# Altium footprint library capacitors.PcbLib: 25 footprints (part 1 of 2)
Each footprint in its own frame and in the unit in brackets; x right, y up, seen from the top. Pads: shape width x height; smd on the part's side, far side on the other; paste and mask are expansions set on the pad; w line width, h text height; cw(c..) or ccw(c..) is an arc to the next point about the centre after c.
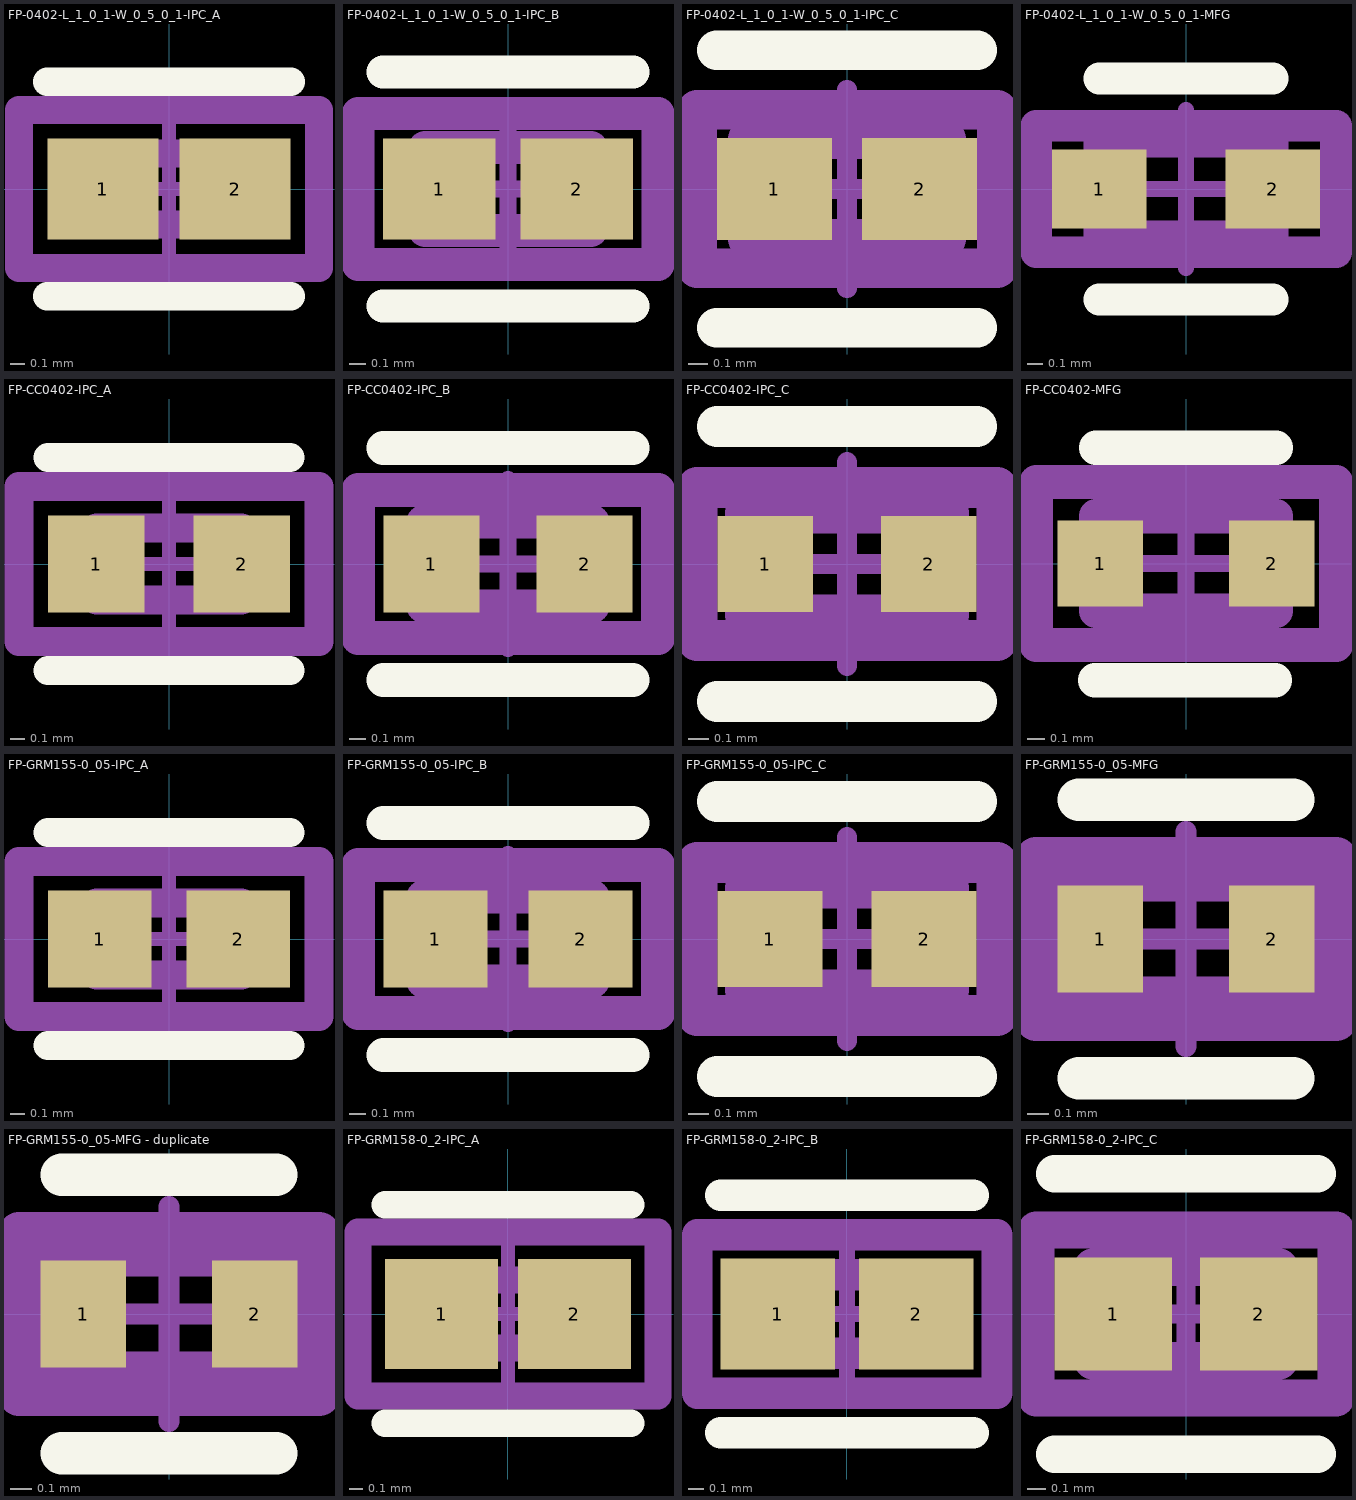
[diagram p0: the footprints below, top view; thin cyan lines are the x and y axes]

## FP-0402-L_1_0_1-W_0_5_0_1-IPC_A [mm]
pads (2):
  rect 0.781x0.712 smd paste+0 mask+0: 1(-0.466,0) 2(0.466,0)
Top Overlay:
  lines w0.2: -0.856,-0.756 0.856,-0.756 ; -0.856,0.756 0.856,0.756
Top 3D Body:
  lines w0.2: -0.5,-0.25 0.5,-0.25 0.5,0.25 -0.5,0.25 -0.5,-0.25
Top Courtyard:
  lines w0.2: -1.056,-0.556 1.056,-0.556 1.056,0.556 -1.056,0.556 -1.056,-0.556
Top Assembly:
  lines w0.2: -1.056,-0.556 1.056,-0.556 1.056,0.556 -1.056,0.556 -1.056,-0.556
Top Component Center:
  lines w0.1: -0.5,0 0.5,0 ; 0,-0.5 0,0.5
3D body "Cap_AVX_04025C472KAT2A_eec.STEP": height 0.25, standoff 0, extent -1.056,-0.556 1.056,0.556

## FP-0402-L_1_0_1-W_0_5_0_1-IPC_B [mm]
pads (2):
  rect 0.681x0.612 smd paste+0 mask+0: 1(-0.416,0) 2(0.416,0)
Top Overlay:
  lines w0.2: -0.756,-0.706 0.756,-0.706 ; -0.756,0.706 0.756,0.706
Top 3D Body:
  lines w0.2: -0.5,-0.25 -0.5,0.25 0.5,0.25 0.5,-0.25 -0.5,-0.25
Top Courtyard:
  lines w0.2: -0.906,-0.456 -0.906,0.456 0.906,0.456 0.906,-0.456 -0.906,-0.456
Top Assembly:
  lines w0.2: -0.906,-0.456 -0.906,0.456 0.906,0.456 0.906,-0.456 -0.906,-0.456
Top Component Center:
  lines w0.1: -0.5,0 0.5,0 ; 0,-0.5 0,0.5
3D body "Cap_AVX_04025C472KAT2A_eec.STEP": height 0.25, standoff 0, extent -0.906,-0.456 0.906,0.456

## FP-0402-L_1_0_1-W_0_5_0_1-IPC_C [mm]
pads (2):
  rect 0.581x0.512 smd paste+0 mask+0: 1(-0.366,0) 2(0.366,0)
Top Overlay:
  lines w0.2: -0.656,-0.7 0.656,-0.7 ; -0.656,0.7 0.656,0.7
Top 3D Body:
  lines w0.2: -0.5,-0.25 0.5,-0.25 0.5,0.25 -0.5,0.25 -0.5,-0.25
Top Courtyard:
  lines w0.2: -0.756,-0.4 0.756,-0.4 0.756,0.4 -0.756,0.4 -0.756,-0.4
Top Assembly:
  lines w0.2: -0.756,-0.4 0.756,-0.4 0.756,0.4 -0.756,0.4 -0.756,-0.4
Top Component Center:
  lines w0.1: -0.5,0 0.5,0 ; 0,-0.5 0,0.5
3D body "Cap_AVX_04025C472KAT2A_eec.STEP": height 0.25, standoff 0, extent -0.756,-0.4 0.756,0.4

## FP-0402-L_1_0_1-W_0_5_0_1-MFG [mm]
pads (2):
  rect 0.6x0.5 smd paste+0 mask+0: 1(-0.55,0) 2(0.55,0)
Top Overlay:
  lines w0.2: -0.55,-0.7 0.55,-0.7 ; -0.55,0.7 0.55,0.7
Top 3D Body:
  lines w0.2: -0.55,-0.3 -0.55,0.3 0.55,0.3 0.55,-0.3 -0.55,-0.3
Top Courtyard:
  lines w0.2: -0.95,-0.4 -0.95,0.4 0.95,0.4 0.95,-0.4 -0.95,-0.4
Top Assembly:
  lines w0.2: -0.95,-0.4 -0.95,0.4 0.95,0.4 0.95,-0.4 -0.95,-0.4
Top Component Center:
  lines w0.1: -0.5,0 0.5,0 ; 0,-0.5 0,0.5
3D body "Cap_AVX_04025C472KAT2A_eec.STEP": height 0.25, standoff 0, extent -0.95,-0.4 0.95,0.4

## FP-CC0402-IPC_A [mm]
pads (2):
  rect 0.668x0.672 smd paste+0 mask+0: 1(-0.502,0) 2(0.502,0)
Top Overlay:
  lines w0.2: -0.836,-0.736 0.836,-0.736 ; -0.836,0.736 0.836,0.736
Top 3D Body:
  lines w0.2: -0.5,-0.25 0.5,-0.25 0.5,0.25 -0.5,0.25 -0.5,-0.25
Top Courtyard:
  lines w0.2: -1.036,-0.536 1.036,-0.536 1.036,0.536 -1.036,0.536 -1.036,-0.536
Top Assembly:
  lines w0.2: -1.036,-0.536 1.036,-0.536 1.036,0.536 -1.036,0.536 -1.036,-0.536
  text ".Designator" at 0,0.188 h1
Top Component Center:
  lines w0.1: -0.5,0 0.5,0 ; 0,-0.5 0,0.5
3D body "Cap_YAGEO_CC0402KRX7R9BB101_eec.STEP": height 0.25, standoff 0, extent -1.036,-0.536 1.036,0.536

## FP-CC0402-IPC_B [mm]
pads (2):
  rect 0.568x0.572 smd paste+0 mask+0: 1(-0.452,0) 2(0.452,0)
Top Overlay:
  lines w0.2: -0.736,-0.686 0.736,-0.686 ; -0.736,0.686 0.736,0.686
Top 3D Body:
  lines w0.2: -0.5,-0.25 -0.5,0.25 0.5,0.25 0.5,-0.25 -0.5,-0.25
Top Courtyard:
  lines w0.2: -0.886,-0.436 -0.886,0.436 0.886,0.436 0.886,-0.436 -0.886,-0.436
Top Assembly:
  lines w0.2: -0.886,-0.436 -0.886,0.436 0.886,0.436 0.886,-0.436 -0.886,-0.436
  text ".Designator" at 0,0.188 h1
Top Component Center:
  lines w0.1: -0.5,0 0.5,0 ; 0,-0.5 0,0.5
3D body "Cap_YAGEO_CC0402KRX7R9BB101_eec.STEP": height 0.25, standoff 0, extent -0.886,-0.436 0.886,0.436

## FP-CC0402-IPC_C [mm]
pads (2):
  rect 0.468x0.472 smd paste+0 mask+0: 1(-0.402,0) 2(0.402,0)
Top Overlay:
  lines w0.2: -0.636,-0.675 0.636,-0.675 ; -0.636,0.675 0.636,0.675
Top 3D Body:
  lines w0.2: -0.5,-0.25 0.5,-0.25 0.5,0.25 -0.5,0.25 -0.5,-0.25
Top Courtyard:
  lines w0.2: -0.736,-0.375 0.736,-0.375 0.736,0.375 -0.736,0.375 -0.736,-0.375
Top Assembly:
  lines w0.2: -0.736,-0.375 0.736,-0.375 0.736,0.375 -0.736,0.375 -0.736,-0.375
  text ".Designator" at 0,0.188 h1
Top Component Center:
  lines w0.1: -0.5,0 0.5,0 ; 0,-0.5 0,0.5
3D body "Cap_YAGEO_CC0402KRX7R9BB101_eec.STEP": height 0.25, standoff 0, extent -0.736,-0.375 0.736,0.375

## FP-CC0402-MFG [mm]
pads (2):
  rect 0.5x0.5 smd paste+0 mask+0: 1(-0.5,0) 2(0.5,0)
Top Overlay:
  lines w0.2: -0.53,-0.681 0.52,-0.681 ; -0.525,0.675 0.525,0.675
Top 3D Body:
  lines w0.2: -0.525,-0.275 -0.525,0.275 0.525,0.275 0.525,-0.275 -0.525,-0.275
Top Courtyard:
  lines w0.2: -0.875,-0.475 -0.875,0.475 0.875,0.475 0.875,-0.475 -0.875,-0.475
Top Assembly:
  lines w0.2: -0.875,-0.475 -0.875,0.475 0.875,0.475 0.875,-0.475 -0.875,-0.475
Top Component Center:
  lines w0.1: -0.5,0 0.5,0 ; 0,-0.5 0,0.5
3D body "Cap_YAGEO_CC0402KRX7R9BB101_eec.STEP": height 0.25, standoff 0, extent -0.875,-0.475 0.875,0.475

## FP-GRM155-0_05-IPC_A [mm]
pads (2):
  rect 0.715x0.672 smd paste+0 mask+0: 1(-0.479,0) 2(0.479,0)
Top Overlay:
  lines w0.2: -0.836,-0.736 0.836,-0.736 ; -0.836,0.736 0.836,0.736
Top 3D Body:
  lines w0.2: -0.5,-0.25 -0.5,0.25 0.5,0.25 0.5,-0.25 -0.5,-0.25
Top Courtyard:
  lines w0.2: -1.036,-0.536 -1.036,0.536 1.036,0.536 1.036,-0.536 -1.036,-0.536
Top Assembly:
  lines w0.2: -1.036,-0.536 -1.036,0.536 1.036,0.536 1.036,-0.536 -1.036,-0.536
Top Component Center:
  lines w0.1: -0.5,0 0.5,0 ; 0,-0.5 0,0.5
3D body "Cap_Murata_GRM1552C1H271GA01J_eec.STEP": height 0.25, standoff 0, extent -1.036,-0.536 1.036,0.536

## FP-GRM155-0_05-IPC_B [mm]
pads (2):
  rect 0.615x0.572 smd paste+0 mask+0: 1(-0.429,0) 2(0.429,0)
Top Overlay:
  lines w0.2: -0.736,-0.686 0.736,-0.686 ; -0.736,0.686 0.736,0.686
Top 3D Body:
  lines w0.2: -0.5,-0.25 -0.5,0.25 0.5,0.25 0.5,-0.25 -0.5,-0.25
Top Courtyard:
  lines w0.2: -0.886,-0.436 -0.886,0.436 0.886,0.436 0.886,-0.436 -0.886,-0.436
Top Assembly:
  lines w0.2: -0.886,-0.436 -0.886,0.436 0.886,0.436 0.886,-0.436 -0.886,-0.436
Top Component Center:
  lines w0.1: -0.5,0 0.5,0 ; 0,-0.5 0,0.5
3D body "Cap_Murata_GRM1552C1H271GA01J_eec.STEP": height 0.25, standoff 0, extent -0.886,-0.436 0.886,0.436

## FP-GRM155-0_05-IPC_C [mm]
pads (2):
  rect 0.515x0.472 smd paste+0 mask+0: 1(-0.379,0) 2(0.379,0)
Top Overlay:
  lines w0.2: -0.636,-0.675 0.636,-0.675 ; -0.636,0.675 0.636,0.675
Top 3D Body:
  lines w0.2: -0.5,-0.25 -0.5,0.25 0.5,0.25 0.5,-0.25 -0.5,-0.25
Top Courtyard:
  lines w0.2: -0.736,-0.375 -0.736,0.375 0.736,0.375 0.736,-0.375 -0.736,-0.375
Top Assembly:
  lines w0.2: -0.736,-0.375 -0.736,0.375 0.736,0.375 0.736,-0.375 -0.736,-0.375
Top Component Center:
  lines w0.1: -0.5,0 0.5,0 ; 0,-0.5 0,0.5
3D body "Cap_Murata_GRM1552C1H271GA01J_eec.STEP": height 0.25, standoff 0, extent -0.736,-0.375 0.736,0.375

## FP-GRM155-0_05-MFG [mm]
pads (2):
  rect 0.4x0.5 smd paste+0 mask+0: 1(-0.4,0) 2(0.4,0)
Top Overlay:
  lines w0.2: -0.5,-0.65 0.5,-0.65 ; -0.5,0.65 0.5,0.65
Top 3D Body:
  lines w0.2: -0.525,-0.275 0.525,-0.275 0.525,0.275 -0.525,0.275 -0.525,-0.275
Top Courtyard:
  lines w0.2: -0.7,-0.375 0.7,-0.375 0.7,0.375 -0.7,0.375 -0.7,-0.375
Top Assembly:
  lines w0.2: -0.7,-0.375 0.7,-0.375 0.7,0.375 -0.7,0.375 -0.7,-0.375
Top Component Center:
  lines w0.1: -0.5,0 0.5,0 ; 0,-0.5 0,0.5
3D body "Cap_Murata_GRM1552C1H271GA01J_eec.STEP": height 0.25, standoff 0, extent -0.7,-0.375 0.7,0.375

## FP-GRM155-0_05-MFG - duplicate [mm]
pads (2):
  rect 0.4x0.5 smd paste+0 mask+0: 1(-0.4,0) 2(0.4,0)
Top Overlay:
  lines w0.2: -0.5,-0.65 0.5,-0.65 ; -0.5,0.65 0.5,0.65
Top 3D Body:
  lines w0.2: -0.525,-0.275 0.525,-0.275 0.525,0.275 -0.525,0.275 -0.525,-0.275
Top Courtyard:
  lines w0.2: -0.7,-0.375 0.7,-0.375 0.7,0.375 -0.7,0.375 -0.7,-0.375
Top Assembly:
  lines w0.2: -0.7,-0.375 0.7,-0.375 0.7,0.375 -0.7,0.375 -0.7,-0.375
Top Component Center:
  lines w0.1: -0.5,0 0.5,0 ; 0,-0.5 0,0.5
3D body "Cap_Murata_GRM1552C1H271GA01J_eec.STEP": height 0.25, standoff 0, extent -0.7,-0.375 0.7,0.375

## FP-GRM158-0_2-IPC_A [mm]
pads (2):
  rect 0.828x0.806 smd paste+0 mask+0: 1(-0.489,0) 2(0.489,0)
Top Overlay:
  lines w0.2: -0.903,-0.803 0.903,-0.803 ; -0.903,0.803 0.903,0.803
Top 3D Body:
  lines w0.2: -0.5,-0.25 0.5,-0.25 0.5,0.25 -0.5,0.25 -0.5,-0.25
Top Courtyard:
  lines w0.2: -1.103,-0.603 1.103,-0.603 1.103,0.603 -1.103,0.603 -1.103,-0.603
Top Assembly:
  lines w0.2: -1.103,-0.603 1.103,-0.603 1.103,0.603 -1.103,0.603 -1.103,-0.603
Top Component Center:
  lines w0.1: -0.5,0 0.5,0 ; 0,-0.5 0,0.5
3D body "Cap_Murata_GRM158C80G226ME01J_eec.STEP": height 0.25, standoff 0, extent -1.103,-0.603 1.103,0.603

## FP-GRM158-0_2-IPC_B [mm]
pads (2):
  rect 0.728x0.706 smd paste+0 mask+0: 1(-0.439,0) 2(0.439,0)
Top Overlay:
  lines w0.2: -0.803,-0.753 0.803,-0.753 ; -0.803,0.753 0.803,0.753
Top 3D Body:
  lines w0.2: -0.5,-0.25 0.5,-0.25 0.5,0.25 -0.5,0.25 -0.5,-0.25
Top Courtyard:
  lines w0.2: -0.953,-0.503 0.953,-0.503 0.953,0.503 -0.953,0.503 -0.953,-0.503
Top Assembly:
  lines w0.2: -0.953,-0.503 0.953,-0.503 0.953,0.503 -0.953,0.503 -0.953,-0.503
Top Component Center:
  lines w0.1: -0.5,0 0.5,0 ; 0,-0.5 0,0.5
3D body "Cap_Murata_GRM158C80G226ME01J_eec.STEP": height 0.25, standoff 0, extent -0.953,-0.503 0.953,0.503

## FP-GRM158-0_2-IPC_C [mm]
pads (2):
  rect 0.628x0.606 smd paste+0 mask+0: 1(-0.389,0) 2(0.389,0)
Top Overlay:
  lines w0.2: -0.703,-0.75 0.703,-0.75 ; -0.703,0.75 0.703,0.75
Top 3D Body:
  lines w0.2: -0.5,-0.25 -0.5,0.25 0.5,0.25 0.5,-0.25 -0.5,-0.25
Top Courtyard:
  lines w0.2: -0.803,-0.45 -0.803,0.45 0.803,0.45 0.803,-0.45 -0.803,-0.45
Top Assembly:
  lines w0.2: -0.803,-0.45 -0.803,0.45 0.803,0.45 0.803,-0.45 -0.803,-0.45
Top Component Center:
  lines w0.1: -0.5,0 0.5,0 ; 0,-0.5 0,0.5
3D body "Cap_Murata_GRM158C80G226ME01J_eec.STEP": height 0.25, standoff 0, extent -0.803,-0.45 0.803,0.45